# Altium footprint library LQFP贴片芯片.PcbLib: 18 footprints (part 1 of 2)
Each footprint in its own frame and in the unit in brackets; x right, y up, seen from the top. Pads: shape width x height; smd on the part's side, far side on the other; paste and mask are expansions set on the pad; w line width, h text height; cw(c..) or ccw(c..) is an arc to the next point about the centre after c.
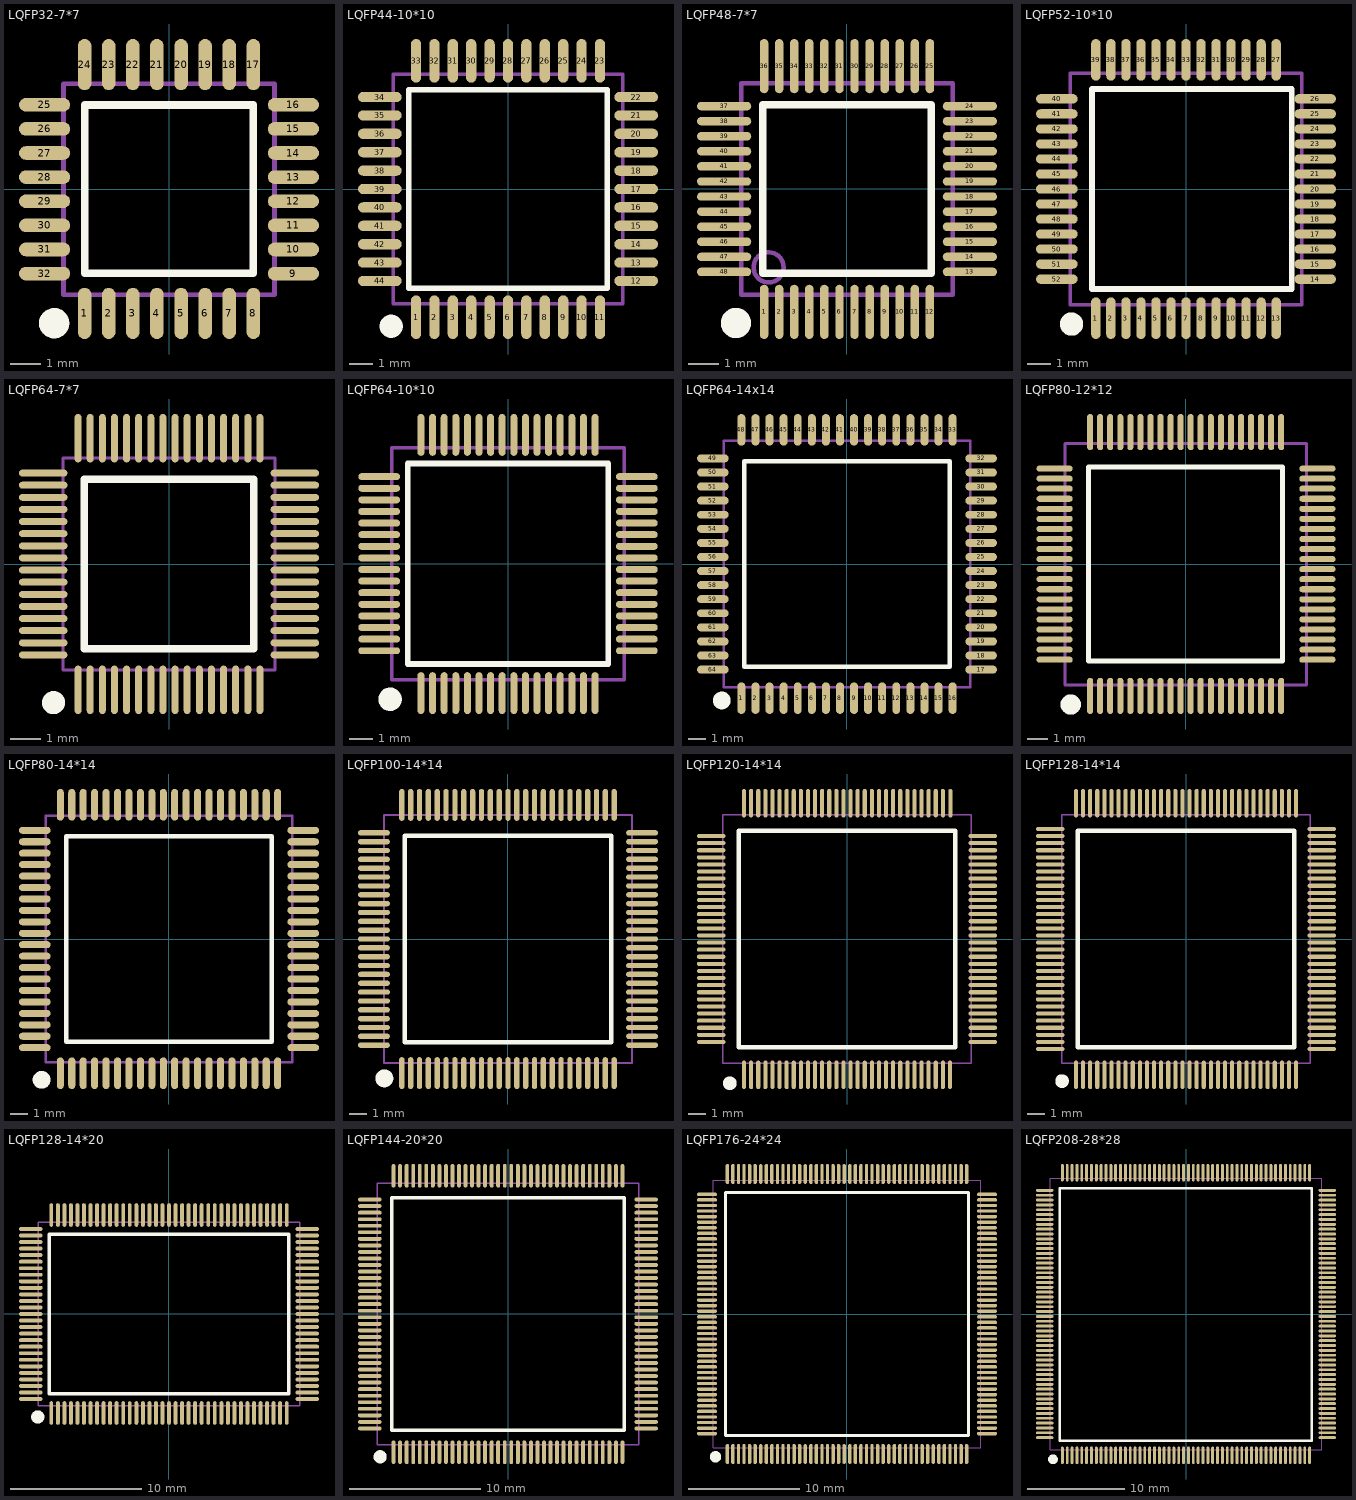
[diagram p0: the footprints below, top view; thin cyan lines are the x and y axes]

## LQFP32-7*7 [mm] "7mmx7mm，间距0.8mm（蒜米工坊）"
pads (32):
  oval 0.45x1.7 smd: 1(-2.8,-4.12) 2(-2,-4.12) 3(-1.2,-4.12) 4(-0.4,-4.12) 5(0.4,-4.12) 6(1.2,-4.12) 7(2,-4.12) 8(2.8,-4.12) 17(2.8,4.132) 18(2,4.132) 19(1.2,4.132) 20(0.4,4.132) 21(-0.4,4.132) 22(-1.2,4.132) 23(-2,4.132) 24(-2.8,4.132)
  oval 1.7x0.45 smd: 9(4.126,-2.8) 10(4.126,-2) 11(4.126,-1.2) 12(4.126,-0.4) 13(4.126,0.4) 14(4.126,1.2) 15(4.126,2) 16(4.126,2.8) 25(-4.126,2.8) 26(-4.126,2) 27(-4.126,1.2) 28(-4.126,0.4) 29(-4.126,-0.4) 30(-4.126,-1.2) 31(-4.126,-2) 32(-4.126,-2.8)
Top Overlay:
  circle w0.508: c-3.81,-4.445 r0.25
  lines w0.254: -2.794,-2.794 -2.794,2.794 2.794,2.794 2.794,-2.794 -2.794,-2.794
Mechanical 13:
  lines w0.15: -3.5,-3.506 3.5,-3.506 3.5,3.494 -3.5,3.494 -3.5,-3.506
3D body "LQFP32-7x7.STEP": height 1.45, standoff 0, extent -4.503,-4.503 4.503,4.503

## LQFP44-10*10 [mm] "10x10mm，0.8mm（蒜米工坊）"
pads (44):
  oval 0.45x1.9 smd: 1(-4,-5.575) 2(-3.2,-5.575) 3(-2.4,-5.575) 4(-1.6,-5.575) 5(-0.8,-5.575) 6(0,-5.575) 7(0.8,-5.575) 8(1.6,-5.575) 9(2.4,-5.575) 10(3.2,-5.575) 11(4,-5.575) 23(4,5.575) 24(3.2,5.575) 25(2.4,5.575) 26(1.6,5.575) 27(0.8,5.575) 28(0,5.575) 29(-0.8,5.575) 30(-1.6,5.575) 31(-2.4,5.575) 32(-3.2,5.575) 33(-4,5.575)
  oval 1.9x0.45 smd: 12(5.575,-4) 13(5.575,-3.2) 14(5.575,-2.4) 15(5.575,-1.6) 16(5.575,-0.8) 17(5.575,0) 18(5.575,0.8) 19(5.575,1.6) 20(5.575,2.4) 21(5.575,3.2) 22(5.575,4) 34(-5.575,4) 35(-5.575,3.2) 36(-5.575,2.4) 37(-5.575,1.6) 38(-5.575,0.8) 39(-5.575,0) 40(-5.575,-0.8) 41(-5.575,-1.6) 42(-5.575,-2.4) 43(-5.575,-3.2) 44(-5.575,-4)
Top Overlay:
  circle w0.508: c-5.08,-5.969 r0.25
  lines w0.254: -4.318,-4.318 -4.318,4.318 4.318,4.318 4.318,-4.318 -4.318,-4.318
Mechanical 13:
  lines w0.15: -5,-5 5,-5 5,5 -5,5 -5,-5
3D body "LQFP44-10x10.STEP": height 1.45, standoff 0, extent -5.969,-6.003 6.037,6.003

## LQFP48-7*7 [mm] "7x7mm，0.5mm（蒜米工坊）"
height 1.6
pads (48):
  oval 0.279x1.8 smd: 1(-2.75,-4.075) 2(-2.25,-4.075) 3(-1.75,-4.075) 4(-1.25,-4.075) 5(-0.75,-4.075) 6(-0.25,-4.075) 7(0.25,-4.075) 8(0.75,-4.075) 9(1.25,-4.075) 10(1.75,-4.075) 11(2.25,-4.075) 12(2.75,-4.075) 25(2.75,4.075) 26(2.25,4.075) 27(1.75,4.075) 28(1.25,4.075) 29(0.75,4.075) 30(0.25,4.075) 31(-0.25,4.075) 32(-0.75,4.075) 33(-1.25,4.075) 34(-1.75,4.075) 35(-2.25,4.075) 36(-2.75,4.075)
  oval 1.8x0.279 smd: 13(4.075,-2.75) 14(4.075,-2.25) 15(4.075,-1.75) 16(4.075,-1.25) 17(4.075,-0.75) 18(4.075,-0.25) 19(4.075,0.25) 20(4.075,0.75) 21(4.075,1.25) 22(4.075,1.75) 23(4.075,2.25) 24(4.075,2.75) 37(-4.075,2.75) 38(-4.075,2.25) 39(-4.075,1.75) 40(-4.075,1.25) 41(-4.075,0.75) 42(-4.075,0.25) 43(-4.075,-0.25) 44(-4.075,-0.75) 45(-4.075,-1.25) 46(-4.075,-1.75) 47(-4.075,-2.25) 48(-4.075,-2.75)
Top Overlay:
  circle w0.508: c-3.683,-4.445 r0.25
  lines w0.254: -2.794,-2.794 2.794,-2.794 2.794,2.794 -2.794,2.794 -2.794,-2.794
Mechanical 13:
  circle w0.15: c-2.6,-2.6 r0.5
  lines w0.15: -3.5,-3.5 -3.5,3.5 3.5,3.5 3.5,-3.5 -3.5,-3.5
3D body "LQFP48-7x7.STEP": height 1.45, standoff 0, extent -4.503,-4.503 4.503,4.503

## LQFP52-10*10 [mm] "10x10mm，0.65mm（蒜米工坊）"
height 1.6
pads (52):
  oval 0.4x1.8 smd: 1(-3.9,-5.588) 2(-3.25,-5.588) 3(-2.6,-5.588) 4(-1.95,-5.588) 5(-1.3,-5.588) 6(-0.65,-5.588) 7(0,-5.588) 8(0.65,-5.588) 9(1.3,-5.588) 10(1.95,-5.588) 11(2.6,-5.588) 12(3.25,-5.588) 13(3.9,-5.588) 27(3.9,5.588) 28(3.25,5.588) 29(2.6,5.588) 30(1.95,5.588) 31(1.3,5.588) 32(0.65,5.588) 33(0,5.588) 34(-0.65,5.588) 35(-1.3,5.588) 36(-1.95,5.588) 37(-2.6,5.588) 38(-3.25,5.588) 39(-3.9,5.588)
  oval 1.8x0.4 smd: 14(5.588,-3.9) 15(5.588,-3.25) 16(5.588,-2.6) 17(5.588,-1.95) 18(5.588,-1.3) 19(5.588,-0.65) 20(5.588,0) 21(5.588,0.65) 22(5.588,1.3) 23(5.588,1.95) 24(5.588,2.6) 25(5.588,3.25) 26(5.588,3.9) 40(-5.588,3.9) 41(-5.588,3.25) 42(-5.588,2.6) 43(-5.588,1.95) 44(-5.588,1.3) 45(-5.588,0.65) 46(-5.588,0) 47(-5.588,-0.65) 48(-5.588,-1.3) 49(-5.588,-1.95) 50(-5.588,-2.6) 51(-5.588,-3.25) 52(-5.588,-3.9)
Top Overlay:
  circle w0.508: c-4.953,-5.842 r0.25
  lines w0.254: -4.064,-4.318 4.572,-4.318 4.572,4.318 -4.064,4.318 -4.064,-4.318
Mechanical 13:
  lines w0.15: -5,-5 5,-5 5,5 -5,5 -5,-5
3D body "LQFP52-10x10.STEP": height 1.45, standoff 0, extent -6.003,-6.003 6.003,6.003

## LQFP64-7*7 [mm] "7x7mm, 0.4mm（蒜米工坊）"
pads (64):
  oval 0.23x1.6 smd: 1(-3,-4.146) 2(-2.6,-4.146) 3(-2.2,-4.146) 4(-1.8,-4.146) 5(-1.4,-4.146) 6(-1,-4.146) 7(-0.6,-4.146) 8(-0.2,-4.146) 9(0.2,-4.146) 10(0.6,-4.146) 11(1,-4.146) 12(1.4,-4.146) 13(1.8,-4.146) 14(2.2,-4.146) 15(2.6,-4.146) 16(3,-4.146) 33(3,4.152) 34(2.6,4.152) 35(2.2,4.152) 36(1.8,4.152) 37(1.4,4.152) 38(1,4.152) 39(0.6,4.152) 40(0.2,4.152) 41(-0.2,4.152) 42(-0.6,4.152) 43(-1,4.152) 44(-1.4,4.152) 45(-1.8,4.152) 46(-2.2,4.152) 47(-2.6,4.152) 48(-3,4.152)
  oval 1.6x0.23 smd: 17(4.149,-2.997) 18(4.149,-2.597) 19(4.149,-2.197) 20(4.149,-1.797) 21(4.149,-1.397) 22(4.149,-0.997) 23(4.149,-0.597) 24(4.149,-0.197) 25(4.149,0.203) 26(4.149,0.603) 27(4.149,1.003) 28(4.149,1.403) 29(4.149,1.803) 30(4.149,2.203) 31(4.149,2.603) 32(4.149,3.003) 49(-4.149,3.003) 50(-4.149,2.603) 51(-4.149,2.203) 52(-4.149,1.803) 53(-4.149,1.403) 54(-4.149,1.003) 55(-4.149,0.603) 56(-4.149,0.203) 57(-4.149,-0.197) 58(-4.149,-0.597) 59(-4.149,-0.997) 60(-4.149,-1.397) 61(-4.149,-1.797) 62(-4.149,-2.197) 63(-4.149,-2.597) 64(-4.149,-2.997)
Top Overlay:
  circle w0.508: c-3.81,-4.572 r0.127
  lines w0.254: -2.794,-2.791 2.794,-2.791 2.794,2.797 -2.794,2.797 -2.794,-2.791
Mechanical 13:
  lines w0.1: -3.5,-3.497 3.5,-3.497 3.5,3.503 -3.5,3.503 -3.5,-3.497
3D body "LQFP64-7x7.STEP": height 1.45, standoff 0, extent -4.503,-4.503 4.503,4.503

## LQFP64-10*10 [mm] "10x10mm，0.5mm（蒜米工坊）"
height 1.6
pads (64):
  oval 0.3x1.8 smd: 1(-3.75,-5.575) 2(-3.25,-5.575) 3(-2.75,-5.575) 4(-2.25,-5.575) 5(-1.75,-5.575) 6(-1.25,-5.575) 7(-0.75,-5.575) 8(-0.25,-5.575) 9(0.25,-5.575) 10(0.75,-5.575) 11(1.25,-5.575) 12(1.75,-5.575) 13(2.25,-5.575) 14(2.75,-5.575) 15(3.25,-5.575) 16(3.75,-5.575) 33(3.75,5.55) 34(3.25,5.55) 35(2.75,5.55) 36(2.25,5.55) 37(1.75,5.55) 38(1.25,5.55) 39(0.75,5.55) 40(0.25,5.55) 41(-0.25,5.55) 42(-0.75,5.55) 43(-1.25,5.55) 44(-1.75,5.55) 45(-2.25,5.55) 46(-2.75,5.55) 47(-3.25,5.55) 48(-3.75,5.55)
  oval 1.8x0.3 smd: 17(5.55,-3.75) 18(5.55,-3.25) 19(5.55,-2.75) 20(5.55,-2.25) 21(5.55,-1.75) 22(5.55,-1.25) 23(5.55,-0.75) 24(5.55,-0.25) 25(5.55,0.25) 26(5.55,0.75) 27(5.55,1.25) 28(5.55,1.75) 29(5.55,2.25) 30(5.55,2.75) 31(5.55,3.25) 32(5.55,3.75) 49(-5.55,3.75) 50(-5.55,3.25) 51(-5.55,2.75) 52(-5.55,2.25) 53(-5.55,1.75) 54(-5.55,1.25) 55(-5.55,0.75) 56(-5.55,0.25) 57(-5.55,-0.25) 58(-5.55,-0.75) 59(-5.55,-1.25) 60(-5.55,-1.75) 61(-5.55,-2.25) 62(-5.55,-2.75) 63(-5.55,-3.25) 64(-5.55,-3.75)
Top Overlay:
  circle w0.508: c-5.08,-5.842 r0.25
  lines w0.254: -4.318,-4.318 4.318,-4.318 4.318,4.318 -4.318,4.318 -4.318,-4.318
Mechanical 13:
  lines w0.15: -5,-5 5,-5 5,5 -5,5 -5,-5
3D body "LQFP64-10x10.STEP": height 1.45, standoff 0, extent -6.003,-6.003 6.003,6.003

## LQFP64-14x14 [mm] "14x14mm，0.8mm（蒜米工坊）"
height 1.6
pads (64):
  oval 0.45x1.8 smd: 1(-6,-7.617) 2(-5.2,-7.617) 3(-4.4,-7.617) 4(-3.6,-7.617) 5(-2.8,-7.617) 6(-2,-7.617) 7(-1.2,-7.617) 8(-0.4,-7.617) 9(0.4,-7.617) 10(1.2,-7.617) 11(2,-7.617) 12(2.8,-7.617) 13(3.6,-7.617) 14(4.4,-7.617) 15(5.2,-7.617) 16(6,-7.617) 33(6,7.629) 34(5.2,7.629) 35(4.4,7.629) 36(3.6,7.629) 37(2.8,7.629) 38(2,7.629) 39(1.2,7.629) 40(0.4,7.629) 41(-0.4,7.629) 42(-1.2,7.629) 43(-2,7.629) 44(-2.8,7.629) 45(-3.6,7.629) 46(-4.4,7.629) 47(-5.2,7.629) 48(-6,7.629)
  oval 1.8x0.45 smd: 17(7.623,-5.994) 18(7.623,-5.194) 19(7.623,-4.394) 20(7.623,-3.594) 21(7.623,-2.794) 22(7.623,-1.994) 23(7.623,-1.194) 24(7.623,-0.394) 25(7.623,0.406) 26(7.623,1.206) 27(7.623,2.006) 28(7.623,2.806) 29(7.623,3.606) 30(7.623,4.406) 31(7.623,5.206) 32(7.623,6.006) 49(-7.623,6.006) 50(-7.623,5.206) 51(-7.623,4.406) 52(-7.623,3.606) 53(-7.623,2.806) 54(-7.623,2.006) 55(-7.623,1.206) 56(-7.623,0.406) 57(-7.623,-0.394) 58(-7.623,-1.194) 59(-7.623,-1.994) 60(-7.623,-2.794) 61(-7.623,-3.594) 62(-7.623,-4.394) 63(-7.623,-5.194) 64(-7.623,-5.994)
Top Overlay:
  circle w0.508: c-7.112,-7.747 r0.25
  lines w0.254: -5.842,-5.842 5.842,-5.842 5.842,5.842 -5.842,5.842 -5.842,-5.842
Mechanical 13:
  lines w0.15: -7,-6.994 -7,7.006 7,7.006 7,-6.994 -7,-6.994
3D body "LQFP64-14x14.STEP": height 1.45, standoff 0, extent -8.001,-8.003 8.005,8.003

## LQFP80-12*12 [mm] "12x12mm，0.5mm（蒜米工坊）"
height 1.6
pads (80):
  oval 0.3x1.8 smd: 1(-4.75,-6.553) 2(-4.25,-6.553) 3(-3.75,-6.553) 4(-3.25,-6.553) 5(-2.75,-6.553) 6(-2.25,-6.553) 7(-1.75,-6.553) 8(-1.25,-6.553) 9(-0.75,-6.553) 10(-0.25,-6.553) 11(0.25,-6.553) 12(0.75,-6.553) 13(1.25,-6.553) 14(1.75,-6.553) 15(2.25,-6.553) 16(2.75,-6.553) 17(3.25,-6.553) 18(3.75,-6.553) 19(4.25,-6.553) 20(4.75,-6.553) 41(4.75,6.564) 42(4.25,6.564) 43(3.75,6.564) 44(3.25,6.564) 45(2.75,6.564) 46(2.25,6.564) 47(1.75,6.564) 48(1.25,6.564) 49(0.75,6.564) 50(0.25,6.564) 51(-0.25,6.564) 52(-0.75,6.564) 53(-1.25,6.564) 54(-1.75,6.564) 55(-2.25,6.564) 56(-2.75,6.564) 57(-3.25,6.564) 58(-3.75,6.564) 59(-4.25,6.564) 60(-4.75,6.564)
  oval 1.8x0.3 smd: 21(6.553,-4.75) 22(6.553,-4.25) 23(6.553,-3.75) 24(6.553,-3.25) 25(6.553,-2.75) 26(6.553,-2.25) 27(6.553,-1.75) 28(6.553,-1.25) 29(6.553,-0.75) 30(6.553,-0.25) 31(6.553,0.25) 32(6.553,0.75) 33(6.553,1.25) 34(6.553,1.75) 35(6.553,2.25) 36(6.553,2.75) 37(6.553,3.25) 38(6.553,3.75) 39(6.553,4.25) 40(6.553,4.75) 61(-6.517,4.75) 62(-6.517,4.25) 63(-6.517,3.75) 64(-6.517,3.25) 65(-6.517,2.75) 66(-6.517,2.25) 67(-6.517,1.75) 68(-6.517,1.25) 69(-6.517,0.75) 70(-6.517,0.25) 71(-6.517,-0.25) 72(-6.517,-0.75) 73(-6.517,-1.25) 74(-6.517,-1.75) 75(-6.517,-2.25) 76(-6.517,-2.75) 77(-6.517,-3.25) 78(-6.517,-3.75) 79(-6.517,-4.25) 80(-6.517,-4.75)
Top Overlay:
  circle w0.508: c-5.715,-6.985 r0.25
  lines w0.254: -4.826,-4.826 4.826,-4.826 4.826,4.826 -4.826,4.826 -4.826,-4.826
Mechanical 13:
  lines w0.15: -6,-6 6,-6 6,6 -6,6 -6,-6
3D body "LQFP80-12x12.STEP": height 1.45, standoff 0, extent -6.985,-7.003 7.021,7.003

## LQFP80-14*14 [mm] "14x14mm，0.65mm（蒜米工坊）"
height 1.6
pads (80):
  oval 0.4x1.8 smd: 1(-6.175,-7.623) 2(-5.525,-7.623) 3(-4.875,-7.623) 4(-4.225,-7.623) 5(-3.575,-7.623) 6(-2.925,-7.623) 7(-2.275,-7.623) 8(-1.625,-7.623) 9(-0.975,-7.623) 10(-0.325,-7.623) 11(0.325,-7.623) 12(0.975,-7.623) 13(1.625,-7.623) 14(2.275,-7.623) 15(2.925,-7.623) 16(3.575,-7.623) 17(4.225,-7.623) 18(4.875,-7.623) 19(5.525,-7.623) 20(6.175,-7.623) 41(6.175,7.623) 42(5.525,7.623) 43(4.875,7.623) 44(4.225,7.623) 45(3.575,7.623) 46(2.925,7.623) 47(2.275,7.623) 48(1.625,7.623) 49(0.975,7.623) 50(0.325,7.623) 51(-0.325,7.623) 52(-0.975,7.623) 53(-1.625,7.623) 54(-2.275,7.623) 55(-2.925,7.623) 56(-3.575,7.623) 57(-4.225,7.623) 58(-4.875,7.623) 59(-5.525,7.623) 60(-6.175,7.623)
  oval 1.8x0.4 smd: 21(7.623,-6.175) 22(7.623,-5.525) 23(7.623,-4.875) 24(7.623,-4.225) 25(7.623,-3.575) 26(7.623,-2.925) 27(7.623,-2.275) 28(7.623,-1.625) 29(7.623,-0.975) 30(7.623,-0.325) 31(7.623,0.325) 32(7.623,0.975) 33(7.623,1.625) 34(7.623,2.275) 35(7.623,2.925) 36(7.623,3.575) 37(7.623,4.225) 38(7.623,4.875) 39(7.623,5.525) 40(7.623,6.175) 61(-7.623,6.175) 62(-7.623,5.525) 63(-7.623,4.875) 64(-7.623,4.225) 65(-7.623,3.575) 66(-7.623,2.925) 67(-7.623,2.275) 68(-7.623,1.625) 69(-7.623,0.975) 70(-7.623,0.325) 71(-7.623,-0.325) 72(-7.623,-0.975) 73(-7.623,-1.625) 74(-7.623,-2.275) 75(-7.623,-2.925) 76(-7.623,-3.575) 77(-7.623,-4.225) 78(-7.623,-4.875) 79(-7.623,-5.525) 80(-7.623,-6.175)
Top Overlay:
  circle w0.508: c-7.239,-8.001 r0.25
  lines w0.254: -5.842,-5.842 5.842,-5.842 5.842,5.842 -5.842,5.842 -5.842,-5.842
Mechanical 13:
  lines w0.15: -7,-7 7,-7 7,7 -7,7 -7,-7
3D body "LQFP80-14x14.STEP": height 1.45, standoff 0, extent -8.003,-8.003 8.003,8.003

## LQFP100-14*14 [mm] "14x14mm，0.5mm（蒜米工坊）"
height 1.6
pads (100):
  oval 0.3x1.8 smd: 1(-6,-7.575) 2(-5.5,-7.575) 3(-5,-7.575) 4(-4.5,-7.575) 5(-4,-7.575) 6(-3.5,-7.575) 7(-3,-7.575) 8(-2.5,-7.575) 9(-2,-7.575) 10(-1.5,-7.575) 11(-1,-7.575) 12(-0.5,-7.575) 13(0,-7.575) 14(0.5,-7.575) 15(1,-7.575) 16(1.5,-7.575) 17(2,-7.575) 18(2.5,-7.575) 19(3,-7.575) 20(3.5,-7.575) 21(4,-7.575) 22(4.5,-7.575) 23(5,-7.575) 24(5.5,-7.575) 25(6,-7.575) 51(6,7.575) 52(5.5,7.575) 53(5,7.575) 54(4.5,7.575) 55(4,7.575) 56(3.5,7.575) 57(3,7.575) 58(2.5,7.575) 59(2,7.575) 60(1.5,7.575) 61(1,7.575) 62(0.5,7.575) 63(0,7.575) 64(-0.5,7.575) 65(-1,7.575) 66(-1.5,7.575) 67(-2,7.575) 68(-2.5,7.575) 69(-3,7.575) 70(-3.5,7.575) 71(-4,7.575) 72(-4.5,7.575) 73(-5,7.575) 74(-5.5,7.575) 75(-6,7.575)
  oval 1.8x0.3 smd: 26(7.576,-6) 27(7.576,-5.5) 28(7.576,-5) 29(7.576,-4.5) 30(7.576,-4) 31(7.576,-3.5) 32(7.576,-3) 33(7.576,-2.5) 34(7.576,-2) 35(7.576,-1.5) 36(7.576,-1) 37(7.576,-0.5) 38(7.576,0) 39(7.576,0.5) 40(7.576,1) 41(7.576,1.5) 42(7.576,2) 43(7.576,2.5) 44(7.576,3) 45(7.576,3.5) 46(7.576,4) 47(7.576,4.5) 48(7.576,5) 49(7.576,5.5) 50(7.576,6) 76(-7.575,6) 77(-7.575,5.5) 78(-7.575,5) 79(-7.575,4.5) 80(-7.575,4) 81(-7.575,3.5) 82(-7.575,3) 83(-7.575,2.5) 84(-7.575,2) 85(-7.575,1.5) 86(-7.575,1) 87(-7.575,0.5) 88(-7.575,0) 89(-7.575,-0.5) 90(-7.575,-1) 91(-7.575,-1.5) 92(-7.575,-2) 93(-7.575,-2.5) 94(-7.575,-3) 95(-7.575,-3.5) 96(-7.575,-4) 97(-7.575,-4.5) 98(-7.575,-5) 99(-7.575,-5.5) 100(-7.575,-6)
Top Overlay:
  circle w0.508: c-6.985,-7.874 r0.25
  lines w0.254: -5.842,-5.842 5.842,-5.842 5.842,5.842 -5.842,5.842 -5.842,-5.842
Mechanical 13:
  lines w0.1: -7,-7 -7,7 7,7 7,-7 -7,-7
3D body "LQFP100-14x14.STEP": height 1.45, standoff 0, extent -8.003,-8.003 8.003,8.003

## LQFP120-14*14 [mm] "4x14mm, 0.4mm（蒜米工坊）"
pads (120):
  oval 0.23x1.6 smd: 1(-5.8,-7.651) 2(-5.4,-7.651) 3(-5,-7.651) 4(-4.6,-7.651) 5(-4.2,-7.651) 6(-3.8,-7.651) 7(-3.4,-7.651) 8(-3,-7.651) 9(-2.6,-7.651) 10(-2.2,-7.651) 11(-1.8,-7.651) 12(-1.4,-7.651) 13(-1,-7.651) 14(-0.6,-7.651) 15(-0.2,-7.651) 16(0.2,-7.651) 17(0.6,-7.651) 18(1,-7.651) 19(1.4,-7.651) 20(1.8,-7.651) 21(2.2,-7.651) 22(2.6,-7.651) 23(3,-7.651) 24(3.4,-7.651) 25(3.8,-7.651) 26(4.2,-7.651) 27(4.6,-7.651) 28(5,-7.651) 29(5.4,-7.651) 30(5.8,-7.651) 61(5.825,7.651) 62(5.4,7.651) 63(5,7.651) 64(4.6,7.651) 65(4.2,7.651) 66(3.8,7.651) 67(3.4,7.651) 68(3,7.651) 69(2.6,7.651) 70(2.2,7.651) 71(1.8,7.651) 72(1.4,7.651) 73(1,7.651) 74(0.6,7.651) 75(0.2,7.651) 76(-0.2,7.651) 77(-0.6,7.651) 78(-1,7.651) 79(-1.4,7.651) 80(-1.8,7.651) 81(-2.2,7.651) 82(-2.6,7.651) 83(-3,7.651) 84(-3.4,7.651) 85(-3.8,7.651) 86(-4.2,7.651) 87(-4.6,7.651) 88(-5,7.651) 89(-5.4,7.651) 90(-5.8,7.651)
  oval 1.6x0.23 smd: 31(7.651,-5.8) 32(7.651,-5.4) 33(7.651,-5) 34(7.651,-4.6) 35(7.651,-4.2) 36(7.651,-3.8) 37(7.651,-3.4) 38(7.651,-3) 39(7.651,-2.6) 40(7.651,-2.2) 41(7.651,-1.8) 42(7.651,-1.4) 43(7.651,-1) 44(7.651,-0.6) 45(7.651,-0.2) 46(7.651,0.2) 47(7.651,0.6) 48(7.651,1) 49(7.651,1.4) 50(7.651,1.8) 51(7.651,2.2) 52(7.651,2.6) 53(7.651,3) 54(7.651,3.4) 55(7.651,3.8) 56(7.651,4.2) 57(7.651,4.6) 58(7.651,5) 59(7.651,5.4) 60(7.651,5.8) 91(-7.651,5.8) 92(-7.651,5.4) 93(-7.651,5) 94(-7.651,4.6) 95(-7.651,4.2) 96(-7.651,3.8) 97(-7.651,3.4) 98(-7.651,3) 99(-7.651,2.6) 100(-7.651,2.2) 101(-7.651,1.8) 102(-7.651,1.4) 103(-7.651,1) 104(-7.651,0.6) 105(-7.651,0.2) 106(-7.651,-0.2) 107(-7.651,-0.6) 108(-7.651,-1) 109(-7.651,-1.4) 110(-7.651,-1.8) 111(-7.651,-2.2) 112(-7.651,-2.6) 113(-7.651,-3) 114(-7.651,-3.4) 115(-7.651,-3.8) 116(-7.651,-4.2) 117(-7.651,-4.6) 118(-7.651,-5) 119(-7.651,-5.4) 120(-7.651,-5.8)
Top Overlay:
  circle w0.508: c-6.604,-8.128 r0.127
  lines w0.254: -6.096,-6.096 6.096,-6.096 6.096,6.096 -6.096,6.096 -6.096,-6.096
Mechanical 13:
  lines w0.1: -7,-7 7,-7 7,7 -7,7 -7,-7
3D body "LQFP120-14x14.STEP": height 1.45, standoff 0, extent -8.001,-8.003 8.005,8.003

## LQFP128-14*14 [mm] "14x14mm, 0.4mm（蒜米工坊）"
pads (128):
  oval 0.23x1.6 smd: 1(-6.2,-7.648) 2(-5.8,-7.648) 3(-5.4,-7.648) 4(-5,-7.648) 5(-4.6,-7.648) 6(-4.2,-7.648) 7(-3.8,-7.648) 8(-3.4,-7.648) 9(-3,-7.648) 10(-2.6,-7.648) 11(-2.2,-7.648) 12(-1.8,-7.648) 13(-1.4,-7.648) 14(-1,-7.648) 15(-0.6,-7.648) 16(-0.2,-7.648) 17(0.2,-7.648) 18(0.6,-7.648) 19(1,-7.648) 20(1.4,-7.648) 21(1.8,-7.648) 22(2.2,-7.648) 23(2.6,-7.648) 24(3,-7.648) 25(3.4,-7.648) 26(3.8,-7.648) 27(4.2,-7.648) 28(4.6,-7.648) 29(5,-7.648) 30(5.4,-7.648) 31(5.8,-7.648) 32(6.2,-7.648) 65(6.2,7.653) 66(5.8,7.653) 67(5.4,7.653) 68(5,7.653) 69(4.6,7.653) 70(4.2,7.653) 71(3.8,7.653) 72(3.4,7.653) 73(3,7.653) 74(2.6,7.653) 75(2.2,7.653) 76(1.8,7.653) 77(1.4,7.653) 78(1,7.653) 79(0.6,7.653) 80(0.2,7.653) 81(-0.2,7.653) 82(-0.6,7.653) 83(-1,7.653) 84(-1.4,7.653) 85(-1.8,7.653) 86(-2.2,7.653) 87(-2.6,7.653) 88(-3,7.653) 89(-3.4,7.653) 90(-3.8,7.653) 91(-4.2,7.653) 92(-4.6,7.653) 93(-5,7.653) 94(-5.4,7.653) 95(-5.8,7.653) 96(-6.2,7.653)
  oval 1.6x0.23 smd: 33(7.651,-6.198) 34(7.651,-5.798) 35(7.651,-5.398) 36(7.651,-4.998) 37(7.651,-4.598) 38(7.651,-4.198) 39(7.651,-3.798) 40(7.651,-3.398) 41(7.651,-2.998) 42(7.651,-2.598) 43(7.651,-2.198) 44(7.651,-1.798) 45(7.651,-1.398) 46(7.651,-0.998) 47(7.651,-0.598) 48(7.651,-0.198) 49(7.651,0.202) 50(7.651,0.602) 51(7.651,1.002) 52(7.651,1.402) 53(7.651,1.802) 54(7.651,2.202) 55(7.651,2.602) 56(7.651,3.002) 57(7.651,3.402) 58(7.651,3.802) 59(7.651,4.202) 60(7.651,4.602) 61(7.651,5.002) 62(7.651,5.402) 63(7.651,5.802) 64(7.651,6.202) 97(-7.651,6.202) 98(-7.651,5.802) 99(-7.651,5.402) 100(-7.651,5.002) 101(-7.651,4.602) 102(-7.651,4.202) 103(-7.651,3.802) 104(-7.651,3.402) 105(-7.651,3.002) 106(-7.651,2.602) 107(-7.651,2.202) 108(-7.651,1.802) 109(-7.651,1.402) 110(-7.651,1.002) 111(-7.651,0.602) 112(-7.651,0.202) 113(-7.651,-0.198) 114(-7.651,-0.598) 115(-7.651,-0.998) 116(-7.651,-1.398) 117(-7.651,-1.798) 118(-7.651,-2.198) 119(-7.651,-2.598) 120(-7.651,-2.998) 121(-7.651,-3.398) 122(-7.651,-3.798) 123(-7.651,-4.198) 124(-7.651,-4.598) 125(-7.651,-4.998) 126(-7.651,-5.398) 127(-7.651,-5.798) 128(-7.651,-6.198)
Top Overlay:
  circle w0.508: c-6.985,-8.001 r0.127
  lines w0.254: -6.096,-6.094 -6.096,6.098 6.096,6.098 6.096,-6.094 -6.096,-6.094
Mechanical 13:
  lines w0.1: -7,-6.998 7,-6.998 7,7.002 -7,7.002 -7,-6.998
3D body "LQFP128-14x14.STEP": height 1.45, standoff 0, extent -8.003,-8.003 8.003,8.003

## LQFP128-14*20 [mm] "14x20mm, 0.5mm（蒜米工坊）"
pads (128):
  oval 0.3x1.8 smd: 1(-8.998,-7.571) 2(-8.498,-7.571) 3(-7.998,-7.571) 4(-7.498,-7.571) 5(-6.998,-7.571) 6(-6.498,-7.571) 7(-5.998,-7.571) 8(-5.498,-7.571) 9(-4.998,-7.571) 10(-4.498,-7.571) 11(-3.998,-7.571) 12(-3.498,-7.571) 13(-2.998,-7.571) 14(-2.498,-7.571) 15(-1.998,-7.571) 16(-1.498,-7.571) 17(-0.998,-7.571) 18(-0.498,-7.571) 19(0.002,-7.571) 20(0.502,-7.571) 21(1.002,-7.571) 22(1.502,-7.571) 23(2.002,-7.571) 24(2.502,-7.571) 25(3.002,-7.571) 26(3.502,-7.571) 27(4.002,-7.571) 28(4.502,-7.571) 29(5.002,-7.571) 30(5.502,-7.571) 31(6.002,-7.571) 32(6.502,-7.571) 33(7.002,-7.571) 34(7.502,-7.571) 35(8.002,-7.571) 36(8.502,-7.571) 37(9.002,-7.571) 65(9.002,7.566) 66(8.502,7.566) 67(8.002,7.566) 68(7.502,7.566) 69(7.002,7.566) 70(6.502,7.566) 71(6.002,7.566) 72(5.502,7.566) 73(5.002,7.566) 74(4.502,7.566) 75(4.002,7.566) 76(3.502,7.566) 77(3.002,7.566) 78(2.502,7.566) 79(2.002,7.566) 80(1.502,7.566) 81(1.002,7.566) 82(0.502,7.566) 83(0.002,7.566) 84(-0.498,7.566) 85(-0.998,7.566) 86(-1.498,7.566) 87(-1.998,7.566) 88(-2.498,7.566) 89(-2.998,7.566) 90(-3.498,7.566) 91(-3.998,7.566) 92(-4.498,7.566) 93(-4.998,7.566) 94(-5.498,7.566) 95(-5.998,7.566) 96(-6.498,7.566) 97(-6.998,7.566) 98(-7.498,7.566) 99(-7.998,7.566) 100(-8.498,7.566) 101(-8.998,7.566)
  oval 1.8x0.3 smd: 38(10.57,-6.502) 39(10.57,-6.002) 40(10.57,-5.502) 41(10.57,-5.002) 42(10.57,-4.502) 43(10.57,-4.002) 44(10.57,-3.502) 45(10.57,-3.002) 46(10.57,-2.502) 47(10.57,-2.002) 48(10.57,-1.502) 49(10.57,-1.002) 50(10.57,-0.502) 51(10.57,-0.002) 52(10.57,0.498) 53(10.57,0.998) 54(10.57,1.498) 55(10.57,1.998) 56(10.57,2.498) 57(10.57,2.998) 58(10.57,3.498) 59(10.57,3.998) 60(10.57,4.498) 61(10.57,4.998) 62(10.57,5.498) 63(10.57,5.998) 64(10.57,6.498) 102(-10.566,6.498) 103(-10.566,5.998) 104(-10.566,5.498) 105(-10.566,4.998) 106(-10.566,4.498) 107(-10.566,3.998) 108(-10.566,3.498) 109(-10.566,2.998) 110(-10.566,2.498) 111(-10.566,1.998) 112(-10.566,1.498) 113(-10.566,0.998) 114(-10.566,0.498) 115(-10.566,-0.002) 116(-10.566,-0.502) 117(-10.566,-1.002) 118(-10.566,-1.502) 119(-10.566,-2.002) 120(-10.566,-2.502) 121(-10.566,-3.002) 122(-10.566,-3.502) 123(-10.566,-4.002) 124(-10.566,-4.502) 125(-10.566,-5.002) 126(-10.566,-5.502) 127(-10.566,-6.002) 128(-10.566,-6.502)
Top Overlay:
  circle w0.508: c-10.033,-7.874 r0.25
  lines w0.254: -9.142,-6.098 -9.142,6.094 9.146,6.094 9.146,-6.098 -9.142,-6.098
Mechanical 13:
  lines w0.1: -9.998,-7.002 10.002,-7.002 10.002,6.998 -9.998,6.998 -9.998,-7.002
3D body "LQFP128-14x20.STEP": height 1.45, standoff 0, extent -11.003,-8.003 11.003,8.003

## LQFP144-20*20 [mm] "20x20mm，0.5mm（蒜米工坊）"
pads (144):
  oval 0.3x1.8 smd: 1(-8.75,-10.573) 2(-8.25,-10.573) 3(-7.75,-10.573) 4(-7.25,-10.573) 5(-6.75,-10.573) 6(-6.25,-10.573) 7(-5.75,-10.573) 8(-5.25,-10.573) 9(-4.75,-10.573) 10(-4.25,-10.573) 11(-3.75,-10.573) 12(-3.25,-10.573) 13(-2.75,-10.573) 14(-2.25,-10.573) 15(-1.75,-10.573) 16(-1.25,-10.573) 17(-0.75,-10.573) 18(-0.25,-10.573) 19(0.25,-10.573) 20(0.75,-10.573) 21(1.25,-10.573) 22(1.75,-10.573) 23(2.25,-10.573) 24(2.75,-10.573) 25(3.25,-10.573) 26(3.75,-10.573) 27(4.25,-10.573) 28(4.75,-10.573) 29(5.25,-10.573) 30(5.75,-10.573) 31(6.25,-10.573) 32(6.75,-10.573) 33(7.25,-10.573) 34(7.75,-10.573) 35(8.25,-10.573) 36(8.75,-10.573) 73(8.75,10.573) 74(8.25,10.573) 75(7.75,10.573) 76(7.25,10.573) 77(6.75,10.573) 78(6.25,10.573) 79(5.75,10.573) 80(5.25,10.573) 81(4.75,10.573) 82(4.25,10.573) 83(3.75,10.573) 84(3.25,10.573) 85(2.75,10.573) 86(2.25,10.573) 87(1.75,10.573) 88(1.25,10.573) 89(0.75,10.573) 90(0.25,10.573) 91(-0.25,10.573) 92(-0.75,10.573) 93(-1.25,10.573) 94(-1.75,10.573) 95(-2.25,10.573) 96(-2.75,10.573) 97(-3.25,10.573) 98(-3.75,10.573) 99(-4.25,10.573) 100(-4.75,10.573) 101(-5.25,10.573) 102(-5.75,10.573) 103(-6.25,10.573) 104(-6.75,10.573) 105(-7.25,10.573) 106(-7.75,10.573) 107(-8.25,10.573) 108(-8.75,10.573)
  oval 1.8x0.3 smd: 37(10.573,-8.75) 38(10.573,-8.25) 39(10.573,-7.75) 40(10.573,-7.25) 41(10.573,-6.75) 42(10.573,-6.25) 43(10.573,-5.75) 44(10.573,-5.25) 45(10.573,-4.75) 46(10.573,-4.25) 47(10.573,-3.75) 48(10.573,-3.25) 49(10.573,-2.75) 50(10.573,-2.25) 51(10.573,-1.75) 52(10.573,-1.25) 53(10.573,-0.75) 54(10.573,-0.25) 55(10.573,0.25) 56(10.573,0.75) 57(10.573,1.25) 58(10.573,1.75) 59(10.573,2.25) 60(10.573,2.75) 61(10.573,3.25) 62(10.573,3.75) 63(10.573,4.25) 64(10.573,4.75) 65(10.573,5.25) 66(10.573,5.75) 67(10.573,6.25) 68(10.573,6.75) 69(10.573,7.25) 70(10.573,7.75) 71(10.573,8.25) 72(10.573,8.75) 109(-10.573,8.75) 110(-10.573,8.25) 111(-10.573,7.75) 112(-10.573,7.25) 113(-10.573,6.75) 114(-10.573,6.25) 115(-10.573,5.75) 116(-10.573,5.25) 117(-10.573,4.75) 118(-10.573,4.25) 119(-10.573,3.75) 120(-10.573,3.25) 121(-10.573,2.75) 122(-10.573,2.25) 123(-10.573,1.75) 124(-10.573,1.25) 125(-10.573,0.75) 126(-10.573,0.25) 127(-10.573,-0.25) 128(-10.573,-0.75) 129(-10.573,-1.25) 130(-10.573,-1.75) 131(-10.573,-2.25) 132(-10.573,-2.75) 133(-10.573,-3.25) 134(-10.573,-3.75) 135(-10.573,-4.25) 136(-10.573,-4.75) 137(-10.573,-5.25) 138(-10.573,-5.75) 139(-10.573,-6.25) 140(-10.573,-6.75) 141(-10.573,-7.25) 142(-10.573,-7.75) 143(-10.573,-8.25) 144(-10.573,-8.75)
Top Overlay:
  circle w0.508: c-9.779,-10.922 r0.25
  lines w0.254: -8.89,-8.892 -8.89,8.89 8.89,8.89 8.89,-8.892 -8.89,-8.892
Mechanical 13:
  lines w0.15: -10,-10 10,-10 10,10 -10,10 -10,-10
3D body "LQFP144-20x20.STEP": height 1.45, standoff 0, extent -11.049,-11.049 10.957,10.957

## LQFP176-24*24 [mm] "24x24mm，0.5mm（蒜米工坊）"
height 1.6
pads (176):
  oval 0.3x1.8 smd: 1(-10.748,-12.575) 2(-10.248,-12.575) 3(-9.748,-12.575) 4(-9.248,-12.575) 5(-8.748,-12.575) 6(-8.248,-12.575) 7(-7.748,-12.575) 8(-7.248,-12.575) 9(-6.748,-12.575) 10(-6.248,-12.575) 11(-5.748,-12.575) 12(-5.248,-12.575) 13(-4.748,-12.575) 14(-4.248,-12.575) 15(-3.748,-12.575) 16(-3.248,-12.575) 17(-2.748,-12.575) 18(-2.248,-12.575) 19(-1.748,-12.575) 20(-1.248,-12.575) 21(-0.748,-12.575) 22(-0.248,-12.575) 23(0.252,-12.575) 24(0.752,-12.575) 25(1.252,-12.575) 26(1.752,-12.575) 27(2.252,-12.575) 28(2.752,-12.575) 29(3.252,-12.575) 30(3.752,-12.575) 31(4.252,-12.575) 32(4.752,-12.575) 33(5.252,-12.575) 34(5.752,-12.575) 35(6.252,-12.575) 36(6.752,-12.575) 37(7.252,-12.575) 38(7.752,-12.575) 39(8.252,-12.575) 40(8.752,-12.575) 41(9.252,-12.575) 42(9.752,-12.575) 43(10.252,-12.575) 44(10.752,-12.575) 89(10.752,12.575) 90(10.252,12.575) 91(9.752,12.575) 92(9.252,12.575) 93(8.752,12.575) 94(8.252,12.575) 95(7.752,12.575) 96(7.252,12.575) 97(6.752,12.575) 98(6.252,12.575) 99(5.752,12.575) 100(5.252,12.575) 101(4.752,12.575) 102(4.252,12.575) 103(3.752,12.575) 104(3.252,12.575) 105(2.752,12.575) 106(2.252,12.575) 107(1.752,12.575) 108(1.252,12.575) 109(0.752,12.575) 110(0.252,12.575) 111(-0.248,12.575) 112(-0.748,12.575) 113(-1.248,12.575) 114(-1.748,12.575) 115(-2.248,12.575) 116(-2.748,12.575) 117(-3.248,12.575) 118(-3.748,12.575) 119(-4.248,12.575) 120(-4.748,12.575) 121(-5.248,12.575) 122(-5.748,12.575) 123(-6.248,12.575) 124(-6.748,12.575) 125(-7.248,12.575) 126(-7.748,12.575) 127(-8.248,12.575) 128(-8.748,12.575) 129(-9.248,12.575) 130(-9.748,12.575) 131(-10.248,12.575) 132(-10.748,12.575)
  oval 1.8x0.3 smd: 45(12.578,-10.75) 46(12.578,-10.25) 47(12.578,-9.75) 48(12.578,-9.25) 49(12.578,-8.75) 50(12.578,-8.25) 51(12.578,-7.75) 52(12.578,-7.25) 53(12.578,-6.75) 54(12.578,-6.25) 55(12.578,-5.75) 56(12.578,-5.25) 57(12.578,-4.75) 58(12.578,-4.25) 59(12.578,-3.75) 60(12.578,-3.25) 61(12.578,-2.75) 62(12.578,-2.25) 63(12.578,-1.75) 64(12.578,-1.25) 65(12.578,-0.75) 66(12.578,-0.25) 67(12.578,0.25) 68(12.578,0.75) 69(12.578,1.25) 70(12.578,1.75) 71(12.578,2.25) 72(12.578,2.75) 73(12.578,3.25) 74(12.578,3.75) 75(12.578,4.25) 76(12.578,4.75) 77(12.578,5.25) 78(12.578,5.75) 79(12.578,6.25) 80(12.578,6.75) 81(12.578,7.25) 82(12.578,7.75) 83(12.578,8.25) 84(12.578,8.75) 85(12.578,9.25) 86(12.578,9.75) 87(12.578,10.25) 88(12.578,10.75) 133(-12.573,10.75) 134(-12.573,10.25) 135(-12.573,9.75) 136(-12.573,9.25) 137(-12.573,8.75) 138(-12.573,8.25) 139(-12.573,7.75) 140(-12.573,7.25) 141(-12.573,6.75) 142(-12.573,6.25) 143(-12.573,5.75) 144(-12.573,5.25) 145(-12.573,4.75) 146(-12.573,4.25) 147(-12.573,3.75) 148(-12.573,3.25) 149(-12.573,2.75) 150(-12.573,2.25) 151(-12.573,1.75) 152(-12.573,1.25) 153(-12.573,0.75) 154(-12.573,0.25) 155(-12.573,-0.25) 156(-12.573,-0.75) 157(-12.573,-1.25) 158(-12.573,-1.75) 159(-12.573,-2.25) 160(-12.573,-2.75) 161(-12.573,-3.25) 162(-12.573,-3.75) 163(-12.573,-4.25) 164(-12.573,-4.75) 165(-12.573,-5.25) 166(-12.573,-5.75) 167(-12.573,-6.25) 168(-12.573,-6.75) 169(-12.573,-7.25) 170(-12.573,-7.75) 171(-12.573,-8.25) 172(-12.573,-8.75) 173(-12.573,-9.25) 174(-12.573,-9.75) 175(-12.573,-10.25) 176(-12.573,-10.75)
Top Overlay:
  circle w0.508: c-11.811,-12.827 r0.25
  lines w0.254: -10.92,-10.922 -10.92,10.922 10.924,10.922 10.924,-10.922 -10.92,-10.922
Mechanical 13:
  lines w0.1: -11.998,-12 -11.998,12 12.002,12 12.002,-12 -11.998,-12
3D body "LQFP176-24x24.STEP": height 1.45, standoff 0, extent -13.003,-13.003 13.003,13.003

## LQFP208-28*28 [mm] "28x28mm，0.5mm（蒜米工坊）"
height 4.3
pads (208):
  oval 0.3x1.8 smd: 1(-12.75,-14.568) 2(-12.25,-14.568) 3(-11.75,-14.568) 4(-11.25,-14.568) 5(-10.75,-14.568) 6(-10.25,-14.568) 7(-9.75,-14.568) 8(-9.25,-14.568) 9(-8.75,-14.568) 10(-8.25,-14.568) 11(-7.75,-14.568) 12(-7.25,-14.568) 13(-6.75,-14.568) 14(-6.25,-14.568) 15(-5.75,-14.568) 16(-5.25,-14.568) 17(-4.75,-14.568) 18(-4.25,-14.568) 19(-3.75,-14.568) 20(-3.25,-14.568) 21(-2.75,-14.568) 22(-2.25,-14.568) 23(-1.75,-14.568) 24(-1.25,-14.568) 25(-0.75,-14.568) 26(-0.25,-14.568) 27(0.25,-14.568) 28(0.75,-14.568) 29(1.25,-14.568) 30(1.75,-14.568) 31(2.25,-14.568) 32(2.75,-14.568) 33(3.25,-14.568) 34(3.75,-14.568) 35(4.25,-14.568) 36(4.75,-14.568) 37(5.25,-14.568) 38(5.75,-14.568) 39(6.25,-14.568) 40(6.75,-14.568) 41(7.25,-14.568) 42(7.75,-14.568) 43(8.25,-14.568) 44(8.75,-14.568) 45(9.25,-14.568) 46(9.75,-14.568) 47(10.25,-14.568) 48(10.75,-14.568) 49(11.25,-14.568) 50(11.75,-14.568) 51(12.25,-14.568) 52(12.75,-14.568) 105(12.75,14.568) 106(12.25,14.568) 107(11.75,14.568) 108(11.25,14.568) 109(10.75,14.568) 110(10.25,14.568) 111(9.75,14.568) 112(9.25,14.568) 113(8.75,14.568) 114(8.25,14.568) 115(7.75,14.568) 116(7.25,14.568) 117(6.75,14.568) 118(6.25,14.568) 119(5.75,14.568) 120(5.25,14.568) 121(4.75,14.568) 122(4.25,14.568) 123(3.75,14.568) 124(3.25,14.568) 125(2.75,14.568) 126(2.25,14.568) 127(1.75,14.568) 128(1.25,14.568) 129(0.75,14.568) 130(0.25,14.568) 131(-0.25,14.568) 132(-0.75,14.568) 133(-1.25,14.568) 134(-1.75,14.568) 135(-2.25,14.568) 136(-2.75,14.568) 137(-3.25,14.568) 138(-3.75,14.568) 139(-4.25,14.568) 140(-4.75,14.568) 141(-5.25,14.568) 142(-5.75,14.568) 143(-6.25,14.568) 144(-6.75,14.568) 145(-7.25,14.568) 146(-7.75,14.568) 147(-8.25,14.568) 148(-8.75,14.568) 149(-9.25,14.568) 150(-9.75,14.568) 151(-10.25,14.568) 152(-10.75,14.568) 153(-11.25,14.568) 154(-11.75,14.568) 155(-12.25,14.568) 156(-12.75,14.568)
  oval 1.8x0.3 smd: 53(14.568,-12.75) 54(14.568,-12.25) 55(14.568,-11.75) 56(14.568,-11.25) 57(14.568,-10.75) 58(14.568,-10.25) 59(14.568,-9.75) 60(14.568,-9.25) 61(14.568,-8.75) 62(14.568,-8.25) 63(14.568,-7.75) 64(14.568,-7.25) 65(14.568,-6.75) 66(14.568,-6.25) 67(14.568,-5.75) 68(14.568,-5.25) 69(14.568,-4.75) 70(14.568,-4.25) 71(14.568,-3.75) 72(14.568,-3.25) 73(14.568,-2.75) 74(14.568,-2.25) 75(14.568,-1.75) 76(14.568,-1.25) 77(14.568,-0.75) 78(14.568,-0.25) 79(14.568,0.25) 80(14.568,0.75) 81(14.568,1.25) 82(14.568,1.75) 83(14.568,2.25) 84(14.568,2.75) 85(14.568,3.25) 86(14.568,3.75) 87(14.568,4.25) 88(14.568,4.75) 89(14.568,5.25) 90(14.568,5.75) 91(14.568,6.25) 92(14.568,6.75) 93(14.568,7.25) 94(14.568,7.75) 95(14.568,8.25) 96(14.568,8.75) 97(14.568,9.25) 98(14.568,9.75) 99(14.568,10.25) 100(14.568,10.75) 101(14.568,11.25) 102(14.568,11.75) 103(14.568,12.25) 104(14.568,12.75) 157(-14.568,12.75) 158(-14.568,12.25) 159(-14.568,11.75) 160(-14.568,11.25) 161(-14.568,10.75) 162(-14.568,10.25) 163(-14.568,9.75) 164(-14.568,9.25) 165(-14.568,8.75) 166(-14.568,8.25) 167(-14.568,7.75) 168(-14.568,7.25) 169(-14.568,6.75) 170(-14.568,6.25) 171(-14.568,5.75) 172(-14.568,5.25) 173(-14.568,4.75) 174(-14.568,4.25) 175(-14.568,3.75) 176(-14.568,3.25) 177(-14.568,2.75) 178(-14.568,2.25) 179(-14.568,1.75) 180(-14.568,1.25) 181(-14.568,0.75) 182(-14.568,0.25) 183(-14.568,-0.25) 184(-14.568,-0.75) 185(-14.568,-1.25) 186(-14.568,-1.75) 187(-14.568,-2.25) 188(-14.568,-2.75) 189(-14.568,-3.25) 190(-14.568,-3.75) 191(-14.568,-4.25) 192(-14.568,-4.75) 193(-14.568,-5.25) 194(-14.568,-5.75) 195(-14.568,-6.25) 196(-14.568,-6.75) 197(-14.568,-7.25) 198(-14.568,-7.75) 199(-14.568,-8.25) 200(-14.568,-8.75) 201(-14.568,-9.25) 202(-14.568,-9.75) 203(-14.568,-10.25) 204(-14.568,-10.75) 205(-14.568,-11.25) 206(-14.568,-11.75) 207(-14.568,-12.25) 208(-14.568,-12.75)
Top Overlay:
  circle w0.508: c-13.716,-14.986 r0.25
  lines w0.254: -13,-13.081 -13,12.954 12.954,12.954 12.954,-13.081 -13,-13.081
Mechanical 13:
  lines w0.1: -14,-14 14,-14 14,14 -14,14 -14,-14
3D body "LQFP208-28x28.STEP": height 1.45, standoff 0, extent -14.986,-14.986 15.02,15.02